# Altium schematic symbol library Step Moter Control.SCHLIB: 7 symbols
Pins are listed as number, name and electrical type; pins without a type are passive.

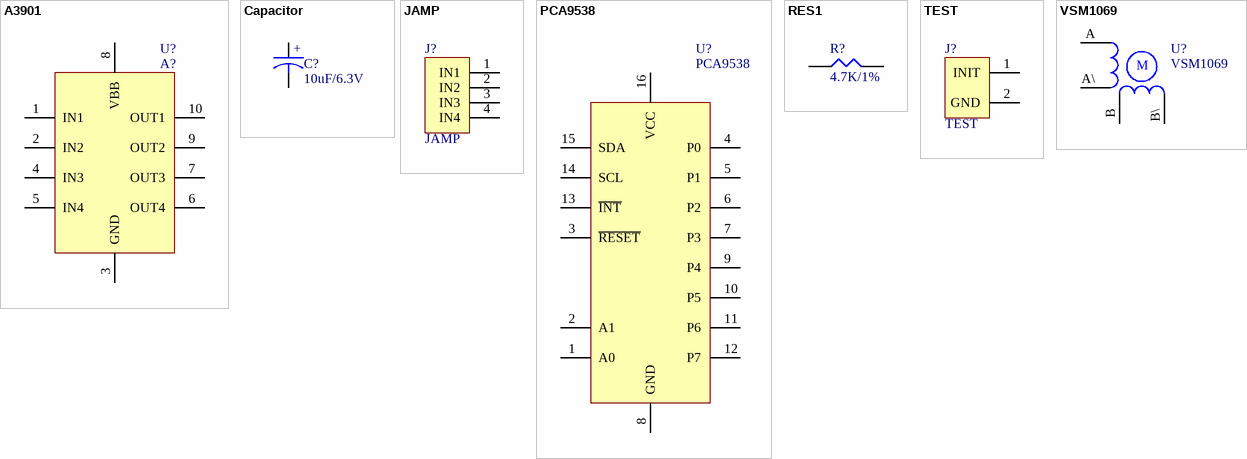
[diagram p0: symbols A3901 to VSM1069]

## A3901
designator A?, comment U?
厂家：Allegro ，型号：A3901 Two phase stepper motor drives
pins: 1 IN1, 2 IN2, 3 GND, 4 IN3, 5 IN4, 6 OUT4, 7 OUT3, 8 VBB, 9 OUT2, 10 OUT1

## Capacitor
designator C?, comment 10uF/6.3V
厂家：ROHM，型号：
footprint 0603C
footprint 3216
footprint 6032-1
footprint 3216
footprint 6032
footprint 6032
footprint 6032
footprint 3216
pins: 1, 2
text: +

## JAMP
designator J?
厂家：暂定，型号：暂定
footprint CON4*2.54
footprint PROGRAM
footprint PROGRAM - 1.27
pins: 1 IN1, 2 IN2, 3 IN3, 4 IN4

## PCA9538
designator PCA9538, comment U?
厂家：TI，型号：PCA9538 Remote 8-bit I2C with interrupt output
pins: 1 A0, 2 A1, 3 ~{RESET}, 4 P0, 5 P1, 6 P2, 7 P3, 8 GND, 9 P4, 10 P5, 11 P6, 12 P7, 13 ~{INT}, 14 SCL, 15 SDA, 16 VCC

## RES1
designator R?, comment 4.7K/1%
厂家：Yageo，型号：RC0402FR-074K7L
footprint 0402R
footprint 0603C
footprint 0603R
footprint 0603R
pins: 1, 2
2 alternate drawings of the same symbol

## TEST
designator J?
厂家：暂定，型号：暂定
footprint CON4*2.54
footprint PROGRAM
footprint PROGRAM - 1.27
pins: 1 INIT, 2 GND

## VSM1069
designator U?
厂家：常州唯可泰，型号：VSM1069；二相步进电机
pins: A, A\, B, B\
text: M